# EAGLE library part SD540* (library NewSDR)
Linear Systems Quad N-Channel Lateral DMOS Switch Zener Protected
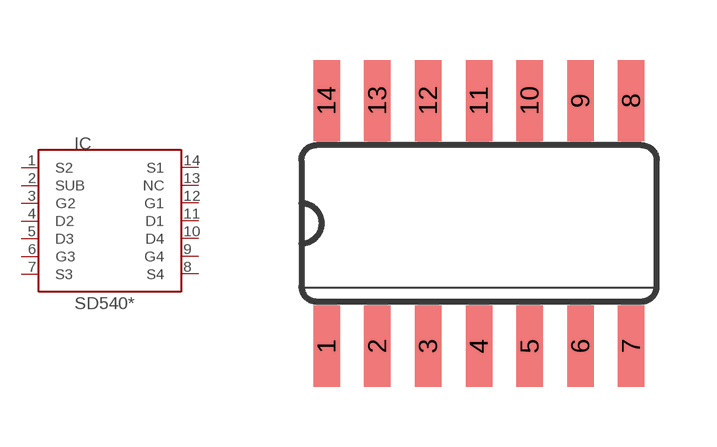
[diagram p88: symbol with the pads of SO14; footprint SO14]

Designator prefix IC

## SD5400CY, SD5401CY  [SO14]
1  S2  pas
2  SUB  pas
3  G2  pas
4  D2  pas
5  D3  pas
6  G3  pas
7  S3  pas
8  S4  pas
9  G4  pas
10  D4  pas
11  D1  pas
12  G1  pas
13  NC  nc
14  S1  pas

## Footprint SO14 (pad centres in mm)
Small Outline package 150 mil
smd 0.66 x 2.032: 1 -3.81,-3.073; 2 -2.54,-3.073; 3 -1.27,-3.073; 4 0,-3.073; 5 1.27,-3.073; 6 2.54,-3.073; 7 3.81,-3.073; 8 3.81,3.073; 9 2.54,3.073; 10 1.27,3.073; 11 0,3.073; 12 -1.27,3.073; 13 -2.54,3.073; 14 -3.81,3.073